# Altium schematic symbol library Angle-Sensor.SchLib: 2 symbols
Pins are listed as number, name and electrical type; pins without a type are passive.

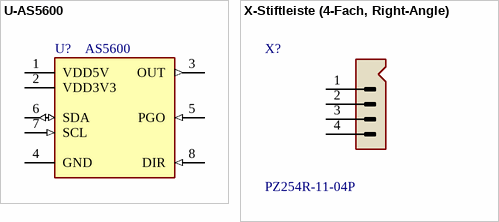
[diagram p0: symbols U-AS5600 to X-Stiftleiste (4-Fach, Right-Angle)]

## U-AS5600
designator U?, comment AS5600
Digital Magnetic Angle Sensor; ComponentLink1Description: Datasheet; ComponentLink1URL: https://ams.com/documents/20143/36005/AS5600_DS000365_5-00.pdf; Digikey: AS5600-ASOMCT-ND; Component Value: AS5600; Farnell: 4158625; JLC-Parts: C499458; Mouser: 985-AS5600-ASOM; Unit Price: 1.32; Component Description: Digital Magnetic Angle Sensor
footprint SMD IC TO-263-5
pins: 1 VDD5V (power), 2 VDD3V3 (power), 3 OUT (out), 4 GND (power), 5 PGO (in), 6 SDA (io), 7 SCL (in), 8 DIR (in)

## X-Stiftleiste (4-Fach, Right-Angle)
designator X?, comment PZ254R-11-04P
Pin Header (Right-Angle); Digikey: 952-3286-ND; Farnell: 3226010; Mouser: 855-M20-9960445; Component Description: Pin Header (Right-Angle); Component Value: PZ254R-11-04P; JLC-Parts: C492412; Unit Price: 0.02
footprint THT Pin-Header 1x6 (NP) (Capacitor, Electrolytic, Radial; Body 5 x 5 mm (Dia.xH typ); Pin Spacing 2 mm (typ))
pins: 1, 2, 3, 4
1 alternate drawing of the same symbol